# Altium schematic symbol library GENERIC_FB.Schlib: 1 symbol
Pins are listed as number, name and electrical type; pins without a type are passive.

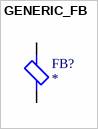
[diagram p0: symbol GENERIC_FB]

## GENERIC_FB
designator FB?
Inductor
pins: 1, 2